# Altium footprint library ИНДУКТИВНОСТЬ.PcbLib: 3 footprints
Each footprint in its own frame and in the unit in brackets; x right, y up, seen from the top. Pads: shape width x height; smd on the part's side, far side on the other; paste and mask are expansions set on the pad; w line width, h text height; cw(c..) or ccw(c..) is an arc to the next point about the centre after c.
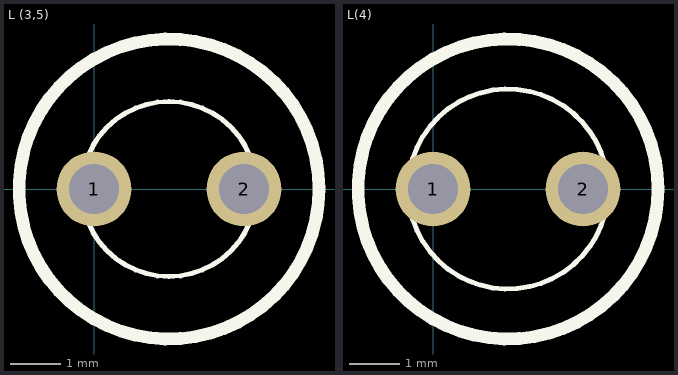
[diagram p0: the footprints below, top view; thin cyan lines are the x and y axes]

## L (3,5) [mm]
pads (2):
  round 1.5 hole 1: 1(0,0) 2(3,0)
Top Overlay:
  circle w0.1: c1.5,0 r1.75
  circle w0.254: c1.5,0 r3

## L(4) [mm]
pads (2):
  round 1.5 hole 1: 1(0,0) 2(3,0)
Top Overlay:
  circle w0.1: c1.5,0 r2
  circle w0.254: c1.5,0 r3

## PCBComponent_1 [mm]